# Altium schematic symbol library Connectors.SchLib: 26 symbols
Pins are listed as number, name and electrical type; pins without a type are passive.

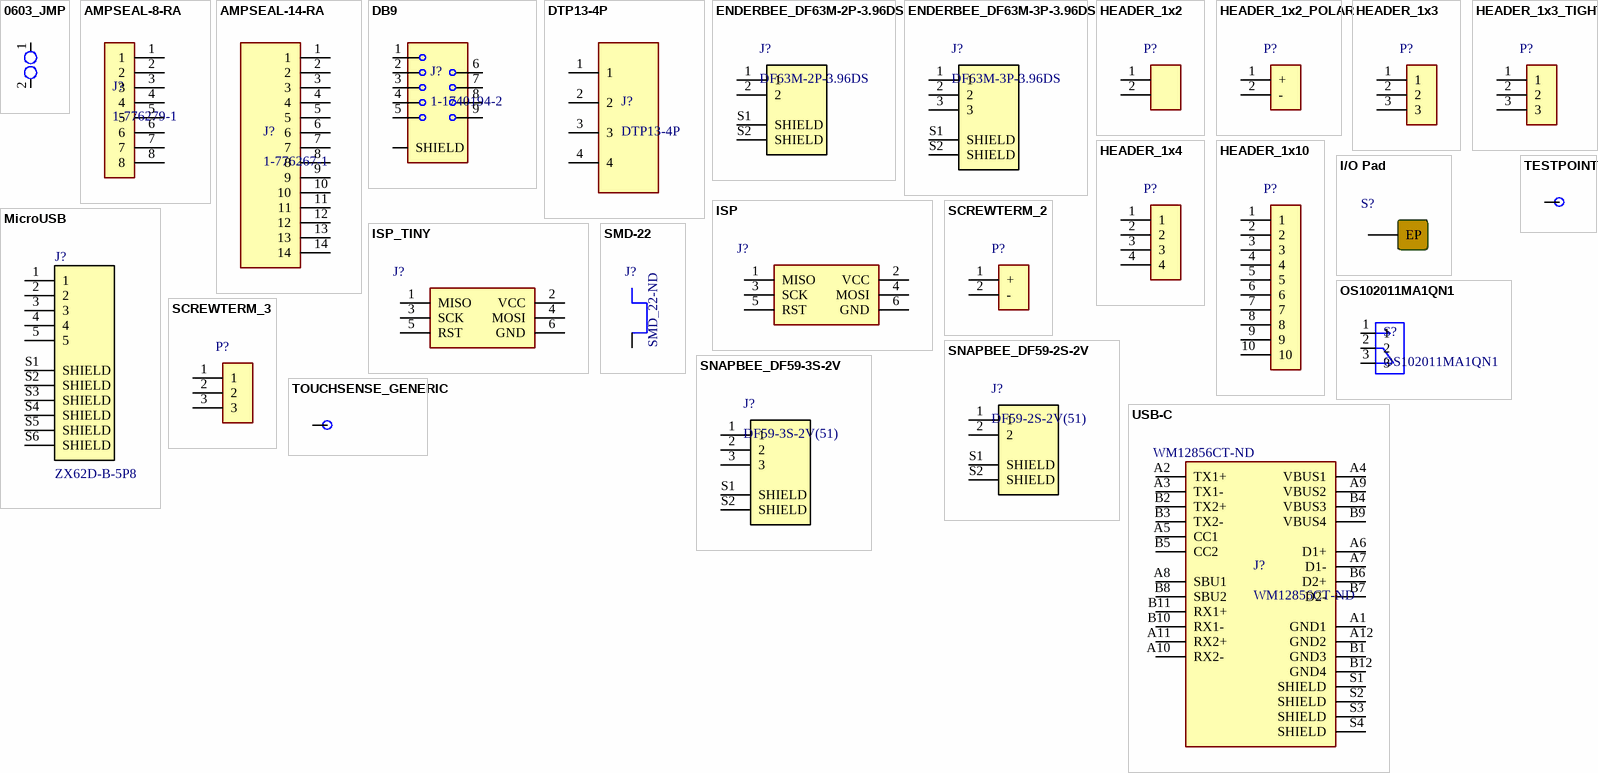
[diagram p0: symbols 0603_JMP to USB-C]

## 0603_JMP
designator J?, comment Jumper Resistor  (value not drawn)
Populate by solder bridging or by 0 ohm
footprint 0603_JMP
pins: 1, 2

## AMPSEAL-8-RA
designator J?, comment 1-776279-1
CONN HEADER R/A 8POS 4MM; MF: {'manufacturer': 'TE Connectivity'}; Price: None; Package: None; Availability: Unavailable; MP: 1-776279-1; Value: *; Supplier 1: Digi-Key; Supplier Part Number 1: A128220-ND
footprint TE_1-776279-1
pins: 1, 2, 3, 4, 5, 6, 7, 8

## AMPSEAL-14-RA
designator J?, comment 1-776267-1
CONN HEADER R/A 14POS 4MM; MF: TE Connectivity; Value: *; MP: 1-776267-1; Package: None; Availability: Unavailable; EU_RoHS_Compliance: Compliant; SnapEDA_Link: https://www.snapeda.com/parts/1-776267-1/TE%20Connectivity%20AMP%20Connectors/view-part/541740/?ref=snap; Price: None; Supplier 1: Digi-Key; Supplier Part Number 1: A142413-ND
footprint TE_1-776267-1 (AMPSEAL 14 Pin Right Angle Header)
pins: 1, 2, 3, 4, 5, 6, 7, 8, 9, 10, 11, 12, 13, 14

## DB9
designator J?, comment 1-1740194-2
TE CONNECTIVITY / AMP         1-1740194-2             Standard D Sub Connector, AMPLIMITE HD-20 Series, DA, Receptacle, 9 Contacts, Metal Body, Solder; Manufacturer 1: TE Connectivity AMP; Plating: Tin; Gender: Female; Current Rating: 4.5A; Voltage Rating: 250V; Number of Positions: 9; Number of Ports: 1; Plating Thickness: 0.8um; Mating Connector Lock: Yes (With); PCB Mount Retention: With; PCB Mounting Orientation: Right Angle; Preloaded: Yes; Sealable: No (Without); Pitch: 2.74mm; Hole Diameter: 2.1mm; Supplier 1: Digi-Key; Manufacturer Part Number 1: 1-1740194-2; Stock 1: 2103; Pricing 1: 1=5.03000, 25=4.42880, 50=4.22740, 100=4.02600, 250=3.52276 (USD); RoHS: Yes; Mount: Surface Mount; Case/Package: Metal; Contact Plating: Nickel; Contact Material: Copper; Color: Black; Housing Material: Polychlorinated; Number of Terminals: 9; Body Material: Metal; Housing Color: Black; Material: Steel; Shell Material: Steel; Min Operating Temperature: -55°C; Max Operating Temperature: 105°C; Packaging: Tape and Reel; Number of Rows: 2; Package Quantity: 225; Max Voltage Rating (AC): 250V; Connector Type: Receptacle; Termination: Solder; Max Supply Voltage (AC): 250V; Number of Contacts: 9; Orientation: Right Angle; Mating Retention: Yes (With); Length: 30.8mm; Width: 12.5mm; Depth: 17.26mm; Radiation Hardening: No; REACH SVHC: No SVHC; ELV: Compliant; Flammability Rating: UL94 V-0; ComponentLink1URL: https://datasheet.ciiva.com/1096/eng-cd-1740194-e-1096385.pdf?src-supplier=Farnell; ComponentLink1Description: https://datasheet.ciiva.com/1096/eng-cd-1740194-e-1096385.pdf?src-supplier=Farnell; ComponentLink2URL: https://datasheet.ciiva.com/11742/0900766b806b09c7-11742899.pdf?src-supplier=RSComponents; ComponentLink2Description: https://datasheet.ciiva.com/11742/0900766b806b09c7-11742899.pdf?src-supplier=RSComponents; ComponentLink3URL: https://datasheet.ciiva.com/34380/1-1740194-2rqpn1-1740194-2-34380557.pdf?src-supplier=Onlinecomponents.com; ComponentLink3Description: https://datasheet.ciiva.com/34380/1-1740194-2rqpn1-1740194-2-34380557.pdf?src-supplier=Onlinecomponents.com; Supplier Part Number 1: A117821CT-ND
footprint DB9-TH
pins: 1, 2, 3, 4, 5, 6, 7, 8, 9, S1 SHIELD, S2 SHIELD

## DTP13-4P
designator J?
Dtp Recp 4#12 Pin 90 Deg; MF: TE Connectivity; Price: None; MP: DTP13-4P; Package: None; Value: *; Availability: Unavailable; SnapEDA_Link: https://www.snapeda.com/parts/DTP13-4P/TE%20Connectivity/view-part/2479277/?ref=snap; Supplier 1: Mouser; Supplier Part Number 1: 571-DTP13-4P
footprint TE_DTP13-4P
pins: 1, 2, 3, 4

## ENDERBEE_DF63M-2P-3.96DS
designator J?, comment DF63M-2P-3.96DS
CONN HEADER R/A 2POS 3.96MM; Supplier 1: Mouser; Supplier Part Number 1: 798-DF63M-2P-3.96DS
footprint ENERBEE_DF63M-2P-3.96DS (CONN HEADER R/A 2POS 3.96MM)
pins: 1 (power), 2, S1 SHIELD, S2 SHIELD

## ENDERBEE_DF63M-3P-3.96DS
designator J?, comment DF63M-3P-3.96DS
CONN HEADER R/A 3POS 3.96MM; Supplier 1: Digi-Key; Supplier Part Number 1: 26-DF63M-3P-3.96DS-ND
footprint ENERBEE_DF63M-3P-3.96DS (CONN HEADER R/A 3POS 3.96MM)
pins: 1 (power), 2, 3, S1 SHIELD, S2 SHIELD

## HEADER_1x2
designator P?
footprint PIN2 (2x1 Header 0.1mm)
pins: 1 +, 2 -

## HEADER_1x2_POLAR
designator P?
Polarity
footprint PIN2 (2x1 Header 0.1mm)
pins: 1 +, 2 -

## HEADER_1x3
designator P?
footprint PIN3 (2x1 Header 0.1mm)
pins: 1, 2, 3

## HEADER_1x3_TIGHT
designator P?
footprint PIN3 - TIGHT (2x1 Header 0.1mm)
pins: 1, 2, 3

## HEADER_1x4
designator P?
footprint PIN4 (4x1 Header 0.1mm)
pins: 1, 2, 3, 4

## HEADER_1x10
designator P?
footprint PIN10 (4x1 Header 0.1mm)
pins: 1, 2, 3, 4, 5, 6, 7, 8, 9, 10

## I/O Pad
designator S?, comment N/A  (value not drawn)
Exposed copper to be used as a mechanical switch
footprint TestPoint
pins: 1 EP

## ISP
designator J?, comment 6 Pin ISP Header  (value not drawn)
footprint CONN_ISP_M
pins: 1 MISO, 2 VCC, 3 SCK, 4 MOSI, 5 RST, 6 GND

## ISP_TINY
designator J?, comment 6 Pin ISP Header  (value not drawn)
footprint CONN_ISP_TINY
pins: 1 MISO, 2 VCC, 3 SCK, 4 MOSI, 5 RST, 6 GND

## MicroUSB
designator J?, comment ZX62D-B-5P8
SMD+DIP Micro USB; MICRO-B-SMD; MF: Hirose; SnapEDA_Link: https://www.snapeda.com/parts/ZX62D-B-5P8/Hirose%20Electric%20Co%20Ltd/view-part/?ref=snap; Package: None; Price: None; MP: ZX62D-B-5P8; Availability: Unavailable; Value: *; Supplier 1: Digi-Key; Supplier Part Number 1: H125272CT-ND
footprint Micro_USB
pins: 1 (power), 2, 3, 4, 5, S1 SHIELD, S2 SHIELD, S3 SHIELD, S4 SHIELD, S5 SHIELD, S6 SHIELD

## OS102011MA1QN1
designator S?
Slide Switch SPDT Through Hole Right Angle; MF: C&K; MP: OS102011MS2QN1; Price: None; Availability: Unavailable; Package: None; SnapEDA_Link: https://www.snapeda.com/parts/OS102011MS2QN1/C%26K/view-part/391519/?ref=snap; Value: *; Supplier 1: Digi-Key; Supplier Part Number 1: CKN9559-ND
footprint OS102011MA1QN1
pins: 1, 2, 3

## SCREWTERM_2
designator P?
footprint CONN_SCR_2_5MM - duplicate
pins: 1 +, 2 -

## SCREWTERM_3
designator P?
TERM BLOCK 3POS 45DEG 3.5MM PCB
footprint CONN_SCR_3_3.5MM
pins: 1, 2, 3

## SMD-22
designator J?, comment Supplier Part Number 1: SMD_22-ND  (hidden comment: SMD_22)
LED Mounting Hardware Coupler SMD 22; Supplier 1: Digi-Key; Supplier 2: Mouser; Supplier Part Number 2: 593-SMD22
footprint SMD-22 (LED Light Pipe Connector - VCC)
pins: 1

## SNAPBEE_DF59-2S-2V
designator J?, comment DF59-2S-2V(51)
CONN SSL RCPT 2POS 2MM SOLDER; Supplier 1: Digi-Key; Supplier 2: Digi-Key; Supplier 3: Digi-Key; Supplier Part Number 1: H11961CT-ND; Supplier Part Number 2: H11958-ND; Supplier Part Number 3: H11957CT-ND
footprint SNAPBEE_DF59-2S-2V (CONN SSL RCPT 2POS 2MM SOLDER)
pins: 1 (power), 2, S1 SHIELD, S2 SHIELD

## SNAPBEE_DF59-3S-2V
designator J?, comment DF59-3S-2V(51)
CONN SSL RCPT 3POS 2MM SOLDER; Supplier 1: Digi-Key; Supplier 2: Digi-Key; Supplier 3: Digi-Key; Supplier Part Number 1: H11965CT-ND; Supplier Part Number 2: H11962-ND; Supplier Part Number 3: H11957CT-ND
footprint SNAPBEE_DF59-3S-2V (CONN SSL RCPT 3POS 2MM SOLDER)
pins: 1 (power), 2, 3, S1 SHIELD, S2 SHIELD

## TESTPOINT
designator P?
footprint TestPoint
pins: 1 SPI

## TOUCHSENSE_GENERIC
designator P?
footprint TOUCHSENSE_GENERIC
pins: 1 SPI

## USB-C
designator J?, comment WM12856CT-ND
CONN RCP USB3.1 TYPEC 24P SMD RA; MF: Molex; MP: 1054500101; Package: None; Digi-Key_Part_Number: WM12856CT-ND; SnapEDA_Link: https://www.snapeda.com/parts/1054500101/Molex/view-part/448528/?ref=snap; Digi-Key_Purchase_URL: https://www.digikey.tw/product-detail/en/molex/1054500101/WM12856CT-ND/5843891?utm_source=snapeda&utm_medium=aggregator&utm_campaign=symbol; Value: *; Supplier 1: Digi-Key; Supplier Part Number 1: WM12856CT-ND
footprint USBC_MOLEX (105450-0101)
pins: A1 GND1, A2 TX1+, A3 TX1-, A4 VBUS1, A5 CC1, A6 D1+, A7 D1-, A8 SBU1, A9 VBUS2, A10 RX2-, A11 RX2+, A12 GND2, B1 GND3, B2 TX2+, B3 TX2-, B4 VBUS3, B5 CC2, B6 D2+, B7 D2-, B8 SBU2, B9 VBUS4, B10 RX1-, B11 RX1+, B12 GND4, S1 SHIELD, S2 SHIELD, S3 SHIELD, S4 SHIELD